# Altium footprint library PcbLib1.PcbLib: 11 footprints
Each footprint in its own frame and in the unit in brackets; x right, y up, seen from the top. Pads: shape width x height; smd on the part's side, far side on the other; paste and mask are expansions set on the pad; w line width, h text height; cw(c..) or ccw(c..) is an arc to the next point about the centre after c.
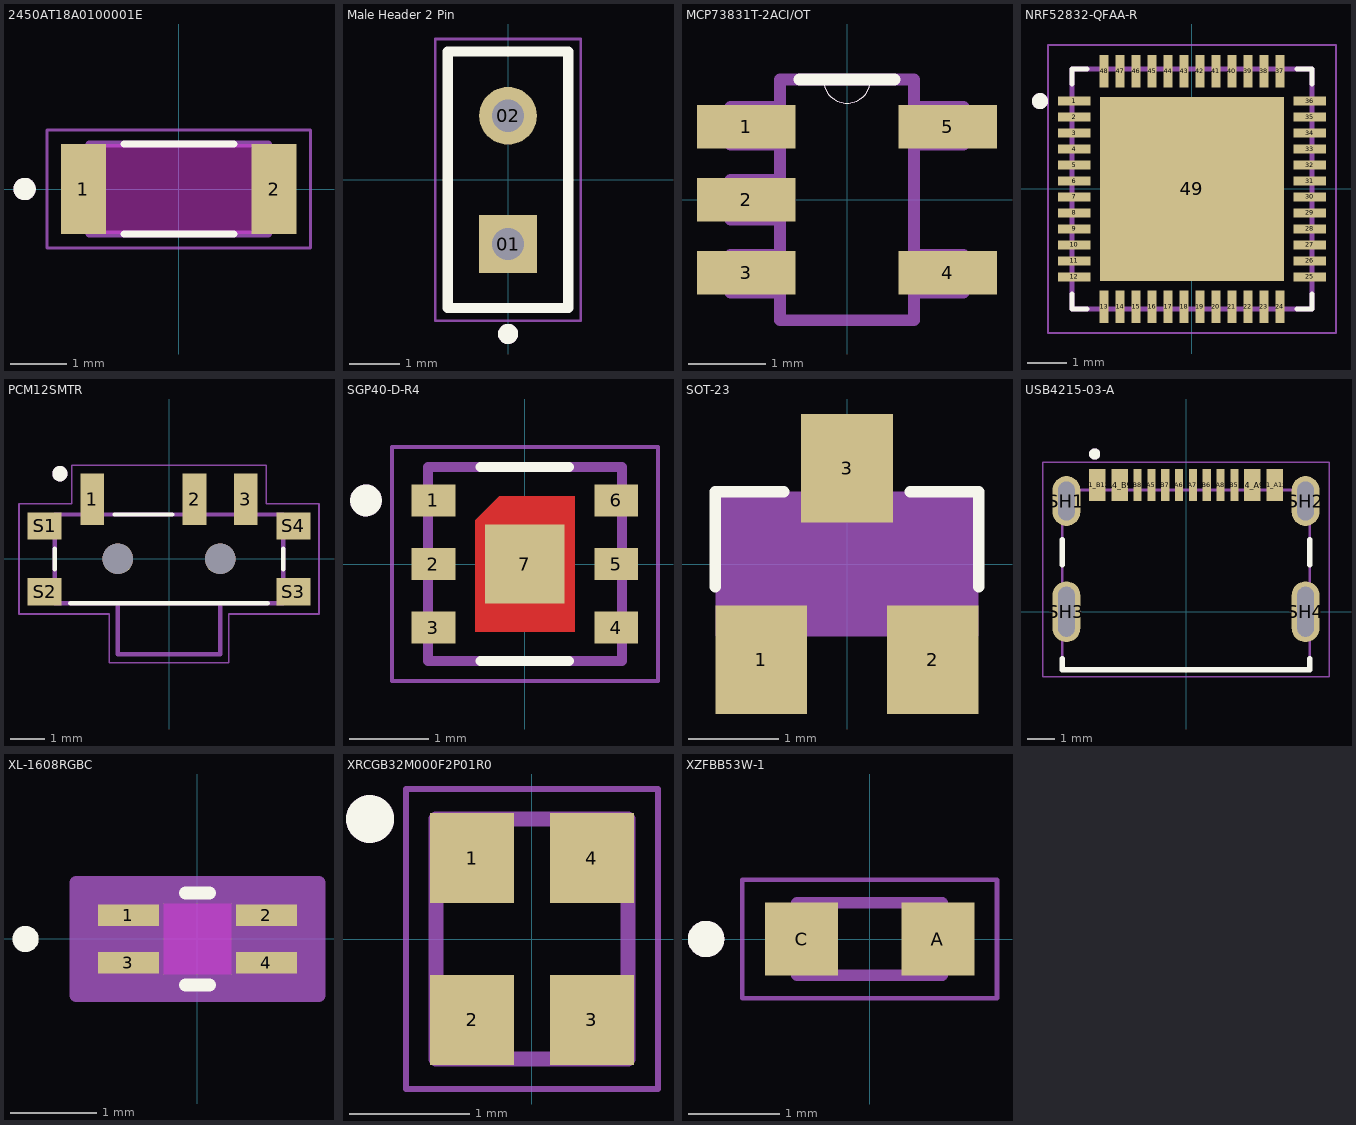
[diagram p0: the footprints below, top view; thin cyan lines are the x and y axes]

## 2450AT18A0100001E [mm]
pads (2):
  rect 0.8x1.6 smd: 1(-1.7,0) 2(1.7,0)
Top Overlay:
  circle w0.2: c-2.75,0 r0.1
  lines w0.127: -0.98,-0.8 0.98,-0.8 ; -0.98,0.8 0.98,0.8
Keep-Out Layer:
  region: 1.3,-0.8 -1.3,-0.8 -1.3,0.8 1.3,0.8
  region: 1.3,-0.8 -1.3,-0.8 -1.3,0.8 1.3,0.8
Mechanical 13:
  circle w0.2: c-2.75,0 r0.1
  lines w0.127: -1.6,-0.8 -1.6,0.8 1.6,0.8 1.6,-0.8 -1.6,-0.8
Mechanical 15:
  lines w0.05: -2.35,-1.05 2.35,-1.05 2.35,1.05 -2.35,1.05 -2.35,-1.05
3D body "step_temp.STEP": height 1.4, standoff 0, extent -1.6,-0.8 1.6,0.8

## Male Header 2 Pin [mil]
pads (2):
  rect 45x45 / inner round 45 / far side rect 45x45 hole 25: 01(0,-50)
  round 45 hole 25: 02(0,50)
Top Overlay:
  circle w7.87: c0,-120.08 r3.94
  lines w7.87: -47,-100 47,-100 47,100 -47,100 -47,-100
Mechanical 13:
  circle w7.87: c0,-120.08 r3.94
  lines w3.94: -47,-100 47,-100 47,100 -47,100 -47,-100
Mechanical 15:
  lines w1.97: -56.84,-109.84 56.84,-109.84 56.84,109.84 -56.84,109.84 -56.84,-109.84
3D body "TD-101-G-A.stp": height 326, standoff -151, extent -47,-100 47,100

## MCP73831T-2ACI/OT [mil]
pads (5):
  rect 50x22 smd: 1(-51,37) 2(-51,0) 3(-51,-37) 4(51,-37) 5(51,37)
Top Overlay:
  lines w0: -12,61 ccw(c0,61) 12,61
  lines w6: -24,61 -12,61 12,61 24,61
Mechanical 13:
  lines w0: -12,61 ccw(c0,61) 12,61
  lines w6: -34,-47 -59,-47 -59,-28 -34,-28 ; -34,-47 -34,-28 ; -34,-47 -34,-61 34,-61 34,-47 ; -34,-28 -34,-10 ; -34,-10 -59,-10 -59,10 -34,10 ; -34,-10 -34,10 ; -34,10 -34,28 ; -34,28 -59,28 -59,47 -34,47 ; -34,28 -34,47 ; -34,47 -34,61 -12,61 12,61 34,61 34,47 ; 34,-47 59,-47 59,-28 34,-28 ; 34,-47 34,-28 ; 34,-28 34,28 ; 34,28 59,28 59,47 34,47 ; 34,28 34,47
3D body "step_temp.STEP": height 57.09, standoff 0, extent -53.15,-57.09 53.15,57.09

## NRF52832-QFAA-R [mm]
pads (49):
  rect 0.81x0.22 smd: 1(-2.95,2.2) 2(-2.95,1.8) 3(-2.95,1.4) 4(-2.95,1) 5(-2.95,0.6) 6(-2.95,0.2) 7(-2.95,-0.2) 8(-2.95,-0.6) 9(-2.95,-1) 10(-2.95,-1.4) 11(-2.95,-1.8) 12(-2.95,-2.2) 25(2.95,-2.2) 26(2.95,-1.8) 27(2.95,-1.4) 28(2.95,-1) 29(2.95,-0.6) 30(2.95,-0.2) 31(2.95,0.2) 32(2.95,0.6) 33(2.95,1) 34(2.95,1.4) 35(2.95,1.8) 36(2.95,2.2)
  rect 0.22x0.81 smd: 13(-2.2,-2.95) 14(-1.8,-2.95) 15(-1.4,-2.95) 16(-1,-2.95) 17(-0.6,-2.95) 18(-0.2,-2.95) 19(0.2,-2.95) 20(0.6,-2.95) 21(1,-2.95) 22(1.4,-2.95) 23(1.8,-2.95) 24(2.2,-2.95) 37(2.2,2.95) 38(1.8,2.95) 39(1.4,2.95) 40(1,2.95) 41(0.6,2.95) 42(0.2,2.95) 43(-0.2,2.95) 44(-0.6,2.95) 45(-1,2.95) 46(-1.4,2.95) 47(-1.8,2.95) 48(-2.2,2.95)
  rect 4.6x4.6 smd paste-3: 49(0,0)
Top Overlay:
  circle w0.2: c-3.805,2.2 r0.1
  lines w0.127: -3,-2.63 -3,-3 -2.63,-3 ; -3,2.63 -3,3 -2.63,3 ; 2.63,-3 3,-3 3,-2.63 ; 2.63,3 3,3 3,2.63
Top Paste:
  region: -0.335,0.335 -1.965,0.335 -1.965,1.965 -0.335,1.965
  region: 1.965,0.335 0.335,0.335 0.335,1.965 1.965,1.965
  region: -0.335,-1.965 -1.965,-1.965 -1.965,-0.335 -0.335,-0.335
  region: 1.965,-1.965 0.335,-1.965 0.335,-0.335 1.965,-0.335
Mechanical 13:
  circle w0.2: c-3.805,2.2 r0.1
  lines w0.127: -3,-3 3,-3 3,3 -3,3 -3,-3
Mechanical 15:
  lines w0.05: -3.605,-3.605 3.605,-3.605 3.605,3.605 -3.605,3.605 -3.605,-3.605
3D body "step_temp.STEP": height 0.9, standoff 0, extent -3,-3 3,3

## PCM12SMTR [mm]
pads (9):
  rect 0.7x1.5 smd: 1(-2.25,1.75) 2(0.75,1.75) 3(2.25,1.75)
  rect 1x0.8 smd: S1(-3.65,0.965) S2(-3.65,-0.965) S3(3.65,-0.965) S4(3.65,0.965)
  round 0.9 hole 0.9 unplated: ""(-1.5,0) ""(1.5,0)
Top Overlay:
  circle w0.25: c-3.2,2.5 r0.1
  lines w0.127: -3.35,-0.3 -3.35,0.3 ; -2.9,-1.3 2.9,-1.3 ; -1.6,1.3 0.1,1.3 ; 3.35,-0.3 3.35,0.3
Mechanical 13:
  circle w0.25: c-3.2,2.5 r0.1
  lines w0.127: -1.5,-1.3 1.5,-1.3 ; -1.5,-1.3 -3.35,-1.3 -3.35,1.3 3.35,1.3 3.35,-1.3 1.5,-1.3 ; -1.5,-1.3 -1.5,-2.8 1.5,-2.8 1.5,-1.3
Mechanical 15:
  lines w0.05: -4.4,-1.615 -1.75,-1.615 -1.75,-3.05 1.75,-3.05 1.75,-1.615 4.4,-1.615 4.4,1.615 2.85,1.615 2.85,2.75 -2.85,2.75 -2.85,1.615 -4.4,1.615 -4.4,-1.615
3D body "step_temp.STEP": height 1.4, standoff -0.51, extent -3.861,-2.794 3.861,2.184

## SGP40-D-R4 [mm]
pads (7):
  rect 0.55x0.4 smd: 1(-1.15,0.8) 2(-1.15,0) 3(-1.15,-0.8) 4(1.15,-0.8) 5(1.15,0) 6(1.15,0.8)
  rect 1x1 smd paste-1 mask+0: 7(0,0)
Top Layer:
  region: 0.625,-0.85 -0.625,-0.85 -0.625,0.55 -0.325,0.85 0.625,0.85
Top Overlay:
  circle w0.2: c-2,0.8 r0.1
  lines w0.127: -0.555,-1.22 0.555,-1.22 ; -0.555,1.22 0.555,1.22
Top Paste:
  region: 0.525,-0.75 -0.525,-0.75 -0.525,0.5 -0.275,0.75 0.525,0.75
Top Solder:
  region: 0.725,-0.95 -0.725,-0.95 -0.725,0.6 -0.375,0.95 0.725,0.95
Mechanical 13:
  circle w0.2: c-2,0.8 r0.1
  lines w0.127: -1.22,-1.22 -1.22,1.22 1.22,1.22 1.22,-1.22 -1.22,-1.22
Mechanical 15:
  lines w0.05: -1.675,-1.47 -1.675,1.47 1.675,1.47 1.675,-1.47 -1.675,-1.47
3D body "step_temp.STEP": height 0.95, standoff 0, extent -1.22,-1.22 1.22,1.22

## SOT-23 [mm]
pads (3):
  rect 1.016x1.2 smd: 1(-0.95,-1.06) 2(0.95,-1.06) 3(0,1.06)
Top Overlay:
  lines w0.127: -1.46,-0.254 -1.46,0.8 -0.699,0.8 ; 0.699,0.8 1.46,0.8 1.46,-0.254
Mechanical 13:
  region: -0.711,-1.424 -1.169,-1.424 -1.169,-0.838 -0.711,-0.838
  region: 1.168,-1.423 0.712,-1.423 0.712,-0.838 1.168,-0.838
  region: 0.229,0.839 -0.229,0.839 -0.229,1.422 0.229,1.422
Mechanical 15:
  region: 1.45,-0.801 -1.452,-0.801 -1.452,0.8 1.45,0.8
3D body "step_temp.STEP": height 1.3, standoff 0, extent -1.45,-1.4 1.45,1.4

## USB4215-03-A [mm]
pads (16):
  rect 0.6x1.15 smd: A1_B12(-3.2,4.575) A4_B9(-2.4,4.575) B1_A12(3.2,4.575) B4_A9(2.4,4.575)
  rect 0.3x1.15 smd: A5(-1.25,4.575) A6(-0.25,4.575) A7(0.25,4.575) A8(1.25,4.575) B5(1.75,4.575) B6(0.75,4.575) B7(-0.75,4.575) B8(-1.75,4.575)
  oval 1x1.8 hole 0.6 slot 1.4 at 90 deg: SH1(-4.32,4) SH2(4.32,4)
  oval 1x2.2 hole 0.6 slot 1.8 at 90 deg: SH3(-4.32,0) SH4(4.32,0)
Top Overlay:
  circle w0.2: c-3.3,5.7 r0.1
  lines w0.2: -4.47,-1.7 -4.47,-2.1 4.47,-2.1 4.47,-1.7 ; -4.47,1.7 -4.47,2.6 ; 4.47,1.7 4.47,2.6
Mechanical 13:
  circle w0.2: c-3.3,5.7 r0.1
  lines w0.1: -4.47,-2.1 4.47,-2.1 4.47,4.4 -4.47,4.4 -4.47,-2.1
Mechanical 15:
  lines w0.05: -5.17,-2.35 5.17,-2.35 5.17,5.4 -5.17,5.4 -5.17,-2.35
3D body "usb4215-03-a.stp": height 3.26, standoff -0.8, extent -4.47,-2.032 4.47,4.717

## XL-1608RGBC [mil]
pads (4):
  rect 28x10 smd paste+0 mask+0: 1(-31.5,10.83) 2(31.5,10.83) 3(-31.5,-10.83) 4(31.5,-10.83)
Top Layer keep-out:
  region: -15.5,-14 -15.5,14 15.5,14 15.5,-14
Top Overlay:
  circle w6: c-78.5,0 r3
  lines w6: -5.46,-21 5.46,-21 ; -5.46,21 5.46,21
Keep-Out Layer:
  region: -15.5,-16 -15.5,16 15.5,16 15.5,-16
Mechanical 13:
  circle w0: c-26.5,10.83 r3
  lines w1: -31.5,-16 -31.5,16 31.5,16 31.5,-16 -31.5,-16 ; -31.5,-5 -17.5,-5 -17.5,5 -31.5,5 -31.5,-5 ; 17.5,-5 31.5,-5 31.5,5 17.5,5 17.5,-5
Mechanical 15:
  region: 55.5,-25.83 -55.5,-25.83 -55.5,25.83 55.5,25.83
  lines w6: -55.5,-25.83 55.5,-25.83 55.5,25.83 -55.5,25.83 -55.5,-25.83
3D body "SMD4-0603_XL-1608RGBC_XLG.step": height 32.99, standoff 0, extent -31.5,-16.81 31.5,16.81

## XRCGB32M000F2P01R0 [mm]
pads (4):
  rect 0.7x0.75 smd: 1(-0.5,0.675) 2(-0.5,-0.675) 3(0.5,-0.675) 4(0.5,0.675)
Top Overlay:
  circle w0.2: c-1.35,1 r0.1
Mechanical 13:
  circle w0.2: c-1.35,1 r0.1
  lines w0.127: -0.8,-1 -0.8,1 0.8,1 0.8,-1 -0.8,-1
Mechanical 15:
  lines w0.05: -1.05,-1.25 -1.05,1.25 1.05,1.25 1.05,-1.25 -1.05,-1.25
3D body "step_temp.STEP": height 0.7, standoff 0, extent -0.8,-1 0.8,1

## XZFBB53W-1 [mm]
pads (2):
  rect 0.8x0.8 smd: A(0.75,0) C(-0.75,0)
Top Overlay:
  circle w0.2: c-1.8,0 r0.1
Mechanical 13:
  circle w0.2: c-1.8,0 r0.1
  lines w0.127: -0.8,-0.4 -0.8,0.4 0.8,0.4 0.8,-0.4 -0.8,-0.4
Mechanical 15:
  lines w0.05: -1.4,-0.65 -1.4,0.65 1.4,0.65 1.4,-0.65 -1.4,-0.65
3D body "step_temp.STEP": height 0.65, standoff 0, extent -0.8,-0.4 0.8,0.4